# EAGLE library part MF2-59 (library impellimax-drivers)
Please contact factory for your specific package and pinout needs. www.impellimax.com 603-886-9569
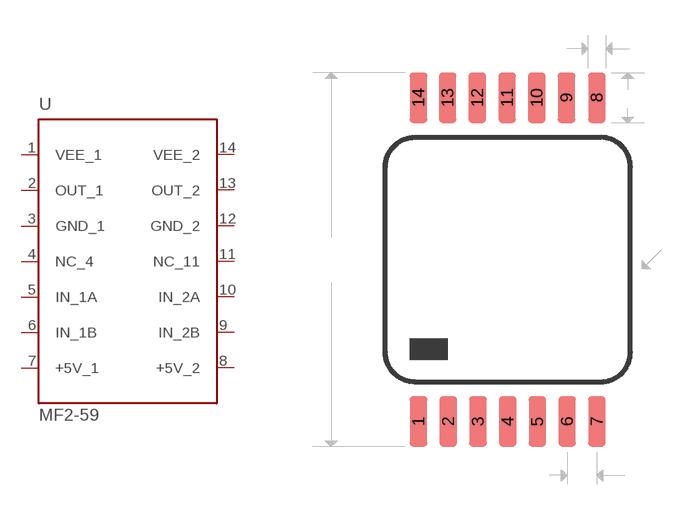
[diagram p30: symbol with the pads of 7401_C121; footprint 7401_C121]

Designator prefix U

## MF2-59  [7401_C121]
1  VEE_1  in
2  OUT_1  in
3  GND_1  pas
4  NC_4  in
5  IN_1A  in
6  IN_1B  in
7  +5V_1  pas
8  +5V_2  in
9  IN_2B  in
10  IN_2A  in
11  NC_11  in
12  GND_2  in
13  OUT_2  in
14  VEE_2  in

## Footprint 7401_C121 (pad centres in mm)
.380 max square package actual lead to lead length .600 max not leadformed, seat package in thru-hole lead width .016, land pattern width .030
smd 0.762 x 2.159: 1 -3.811,-6.923; 2 -2.541,-6.92; 3 -1.269,-6.922; 4 0.001,-6.925; 5 1.267,-6.922; 6 2.538,-6.925; 7 3.809,-6.922; 8 3.808,6.92; 9 2.513,6.92; 10 1.243,6.92; 11 -0.025,6.92; 12 -1.297,6.919; 13 -2.567,6.92; 14 -3.812,6.919